# EAGLE library part S26KS512SDPBHI020 (library S26KS512SDPBHI020)
1.8V 512MBIT, HYPERFLASH, 166M Source: Datasheet <https://componentsearchengine.com/Datasheets/1/S26KS512SDPBHI020.pdf>
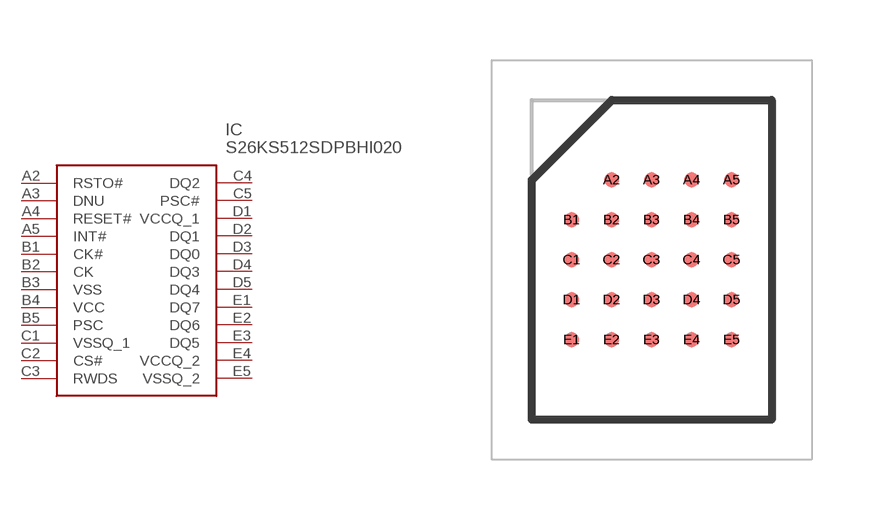
[diagram p1: symbol with the pads of BGA24C100P5X5_600X800X100; footprint BGA24C100P5X5_600X800X100]

Designator prefix IC

## S26KS512SDPBHI020 (DESCRIPTION: 1.8V 512MBIT, HYPERFLASH, 166M; HEIGHT: 1mm; MANUFACTURER_NAME: Cypress Semiconductor; MANUFACTURER_PART_NUMBER: S26KS512SDPBHI020; MOUSER_PART_NUMBER: 727-26KS512SDPBHI020; MOUSER_PRICE-STOCK: https://www.mouser.com/Search/Refine.aspx?Keyword=727-26KS512SDPBHI020)  [BGA24C100P5X5_600X800X100]
A2  RSTO#
A3  DNU
A4  RESET#
A5  INT#
B1  CK#
B2  CK
B3  VSS
B4  VCC
B5  PSC
C1  VSSQ_1
C2  CS#
C3  RWDS
C4  DQ2
C5  PSC#
D1  VCCQ_1
D2  DQ1
D3  DQ0
D4  DQ3
D5  DQ4
E1  DQ7
E2  DQ6
E3  DQ5
E4  VCCQ_2
E5  VSSQ_2

## Footprint BGA24C100P5X5_600X800X100 (pad centres in mm)
FBGA 24-Ball 6 x 8 x 1 mm (ELA024)
smd 0.37 x 0.37: A2 -1,2; A3 0,2; A4 1,2; A5 2,2; B1 -2,1; B2 -1,1; B3 0,1; B4 1,1; B5 2,1; C1 -2,0; C2 -1,0; C3 0,0; C4 1,0; C5 2,0; D1 -2,-1; D2 -1,-1; D3 0,-1; D4 1,-1; D5 2,-1; E1 -2,-2; E2 -1,-2; E3 0,-2; E4 1,-2; E5 2,-2